# EAGLE library part ACS722 (library Sensors)
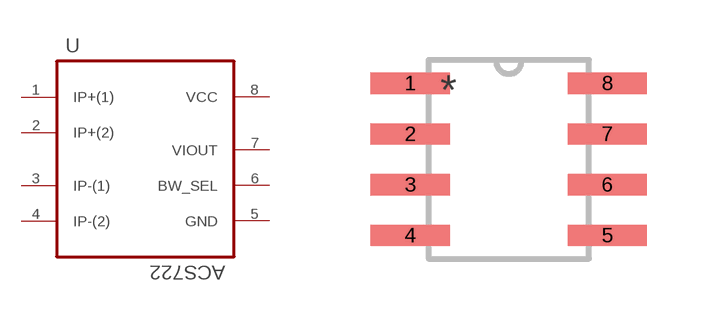
[diagram p0: symbol with the pads of SOIC127P600X175-8N; footprint SOIC127P600X175-8N]

Designator prefix U

## ACS722  [SOIC127P600X175-8N]
1  IP+(1)  pwr
2  IP+(2)  in
3  IP-(1)  in
4  IP-(2)  in
5  GND  pas
6  BW_SEL  in
7  VIOUT  in
8  VCC

## Footprint SOIC127P600X175-8N (pad centres in mm)
smd 1.981 x 0.533: 1 -2.464,1.905; 2 -2.464,0.635; 3 -2.464,-0.635; 4 -2.464,-1.905; 5 2.464,-1.905; 6 2.464,-0.635; 7 2.464,0.635; 8 2.464,1.905